# EAGLE library part 6253XX20621_62531620621 (library WR-BHD)
WR-BHD 2.00 mm Male Characteristics Rated current: 2 A Working Voltage: 250 V UL approval: E323964 UL94-V0 Applications Industrial Production lines Details see: www.we-online.com/components/products/WTB_WR_BHD_BOX_HEADER_2_00MM_MALE Updated by Ella 2026-09-16 2026 (C) Würth Elektronik
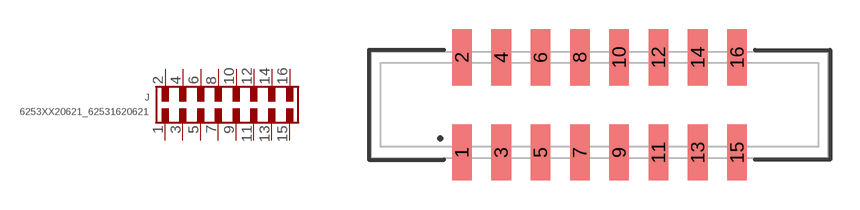
[diagram p112: symbol with the pads of 62531620621; footprint 62531620621]

Designator prefix J

## 6253XX20621_62531620621 (CATEGORY: Connectors; DATASHEET: https://www.we-online.com/redexpert/spec/62531620621?ae; GENDER: Male; LENGTH: 23.25 mm; MANUFACTURER: Würth Elektronik; MOUNT: SMT; MPN: 62531620621; OPERATING_TEMPERATURE: -40 °C up to +105 °C; PACKAGING: Tape and Reel with Cap; PINS: 16; PITCH: 2mm; SIZE: SMT Straight; TYPE: Straight; VALUE: 62531620621)  [62531620621]
1  1  pas
2  2  pas
3  3  pas
4  4  pas
5  5  pas
6  6  pas
7  7  pas
8  8  pas
9  9  pas
10  10  pas
11  11  pas
12  12  pas
13  13  pas
14  14  pas
15  15  pas
16  16  pas

## Footprint 62531620621 (pad centres in mm)
WR-BHD Wire-to-Board Connectors, 2mm, Male, SMT Straight, 16pins
smd 1 x 2.85: 1 -7,-2.425; 2 -7,2.425; 3 -5,-2.425; 4 -5,2.425; 5 -3,-2.425; 6 -3,2.425; 7 -1,-2.425; 8 -1,2.425; 9 1,-2.425; 10 1,2.425; 11 3,-2.425; 12 3,2.425; 13 5,-2.425; 14 5,2.425; 15 7,-2.425; 16 7,2.425